# Altium footprint library LED_RGB.PcbLib: 5 footprints
Each footprint in its own frame and in the unit in brackets; x right, y up, seen from the top. Pads: shape width x height; smd on the part's side, far side on the other; paste and mask are expansions set on the pad; w line width, h text height; cw(c..) or ccw(c..) is an arc to the next point about the centre after c.
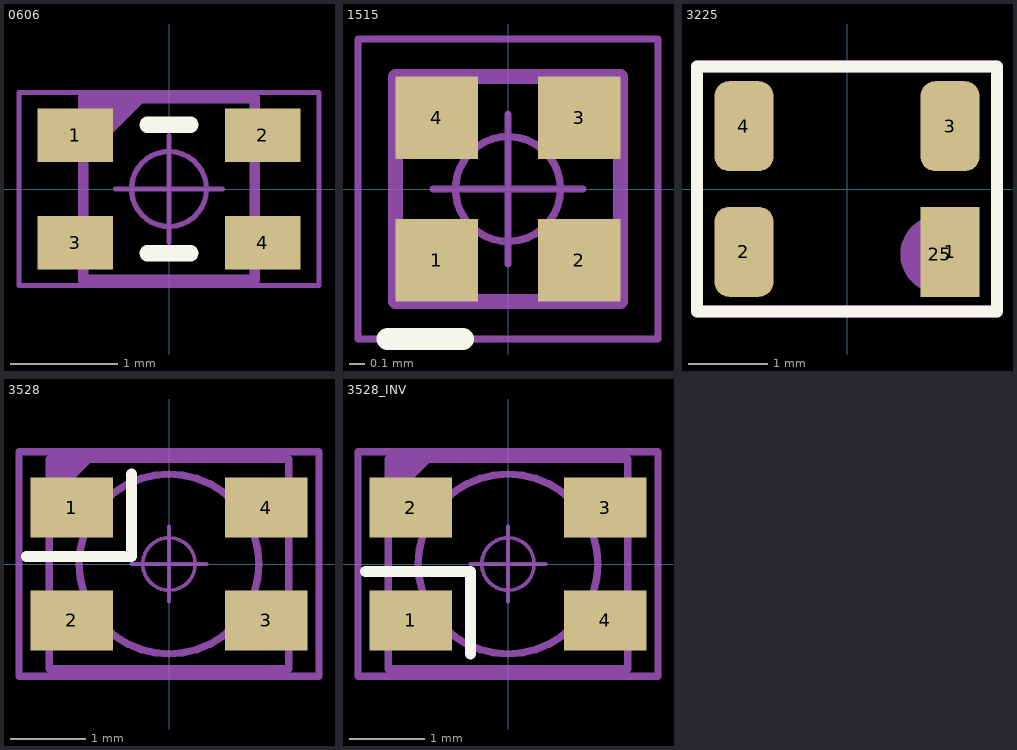
[diagram p0: the footprints below, top view; thin cyan lines are the x and y axes]

## 0606 [mm]
pads (4):
  rect 0.7x0.5 smd mask+0.075: 1(-0.875,0.5) 2(0.875,0.5) 3(-0.875,-0.5) 4(0.875,-0.5)
Top Overlay:
  lines w0.15: -0.2,-0.6 0.2,-0.6 ; -0.2,0.6 0.2,0.6
Mechanical 14:
  region: -0.8,0.85 -0.8,0.25 -0.2,0.85
  lines w0.1: -0.8,-0.85 -0.8,0.85 0.8,0.85 0.8,-0.85 -0.8,-0.85
  text ".Designator" at -0.35,-0.25 h0.6
Mechanical 15:
  circle w0.05: c0,0 r0.35
  lines w0.05: -0.5,0 0.5,0 ; 0,-0.5 0,0.5 ; -1.4,-0.9 1.4,-0.9 1.4,0.9 -1.4,0.9 -1.4,-0.9
3D body "LED0606.stp": height 0.7, standoff -0.01, extent -0.8,-0.851 0.8,0.851

## 1515 [mm]
pads (4):
  rect 0.55x0.55 smd mask+0.075: 1(-0.475,-0.475) 2(0.475,-0.475) 3(0.475,0.475) 4(-0.475,0.475)
Top Overlay:
  lines w0.15: -0.8,-1 -0.3,-1
Mechanical 14:
  region: -0.75,0.75 -0.75,0.3 -0.3,0.75
  lines w0.1: -0.75,-0.75 -0.75,0.75 0.75,0.75 0.75,-0.75 -0.75,-0.75
  text ".Designator" at -0.35,-0.25 h0.6
Mechanical 15:
  circle w0.05: c0,0 r0.35
  lines w0.05: -0.5,0 0.5,0 ; 0,-0.5 0,0.5 ; -1,-1 -1,1 1,1 1,-1 -1,-1
3D body "SK6805-EC15.STEP": height 0.65, standoff 0, extent -0.75,-0.75 0.75,0.75

## 3225 [mm] "RGB 1206 Led 4 pin"
height 0.83
pads (5):
  rect 0.75x1.14 smd: 1(1.305,-0.795)
  rrect50% 0.75x1.14 smd: 2(-1.305,-0.795) 3(1.305,0.795) 4(-1.305,0.795)
  round 1 on Mech14: 25(1.175,-0.825)
Top Overlay:
  lines w0.15: -1.9,-1.55 -1.9,1.55 1.9,1.55 1.9,-1.55 -1.9,-1.55
Mechanical 14:
  lines w0.15: -1.9,-1.55 -1.9,1.55 1.9,1.55 1.9,-1.55 -1.9,-1.55
  text ".Designator" at -0.85,-0.3 h0.7
3D body "1206RGB_Led.STEP": height 0.83, standoff 0, extent -1.6,-1.285 1.6,1.285

## 3528 [mm]
height 1.8
pads (4):
  rect 1.1x0.8 smd: 1(-1.3,0.75) 2(-1.3,-0.75) 3(1.3,-0.75) 4(1.3,0.75)
Top Overlay:
  lines w0.15: -1.9,0.1 -0.5,0.1 -0.5,1.2
Mechanical 14:
  circle w0.1: c0,0 r1.2
  region: -1.6,1.4 -1.6,0.8 -1,1.4
  lines w0.1: -1.6,-1.4 -1.6,1.4 1.6,1.4 1.6,-1.4 -1.6,-1.4
  text ".Designator" at -0.9,-0.25 h0.5
Mechanical 15:
  circle w0.05: c0,0 r0.35
  lines w0.05: -0.5,0 0.5,0 ; 0,-0.5 0,0.5
  lines w0.1: -2,-1.5 2,-1.5 2,1.5 -2,1.5 -2,-1.5
3D body "LED_PLCC-4.step": height 1.9, standoff 0, extent -1.75,-1.4 1.75,1.4

## 3528_INV [mm]
height 1.8
pads (4):
  rect 1.1x0.8 smd: 1(-1.3,-0.75) 2(-1.3,0.75) 3(1.3,0.75) 4(1.3,-0.75)
Top Overlay:
  lines w0.15: -1.9,-0.1 -0.5,-0.1 -0.5,-1.2
Mechanical 14:
  circle w0.1: c0,0 r1.2
  region: -1.6,1.4 -1.6,0.8 -1,1.4
  lines w0.1: -1.6,-1.4 1.6,-1.4 1.6,1.4 -1.6,1.4 -1.6,-1.4
  text ".Designator" at -0.7,-0.3 h0.5
Mechanical 15:
  circle w0.05: c0,0 r0.35
  lines w0.05: -0.5,0 0.5,0 ; 0,-0.5 0,0.5
  lines w0.1: -2,-1.5 -2,1.5 2,1.5 2,-1.5 -2,-1.5
3D body "LED_PLCC-4.step": height 1.9, standoff 0, extent -1.75,-1.4 1.75,1.4